# Altium footprint library VARISTOR.PcbLib: 2 footprints
Each footprint in its own frame and in the unit in brackets; x right, y up, seen from the top. Pads: shape width x height; smd on the part's side, far side on the other; paste and mask are expansions set on the pad; w line width, h text height; cw(c..) or ccw(c..) is an arc to the next point about the centre after c.
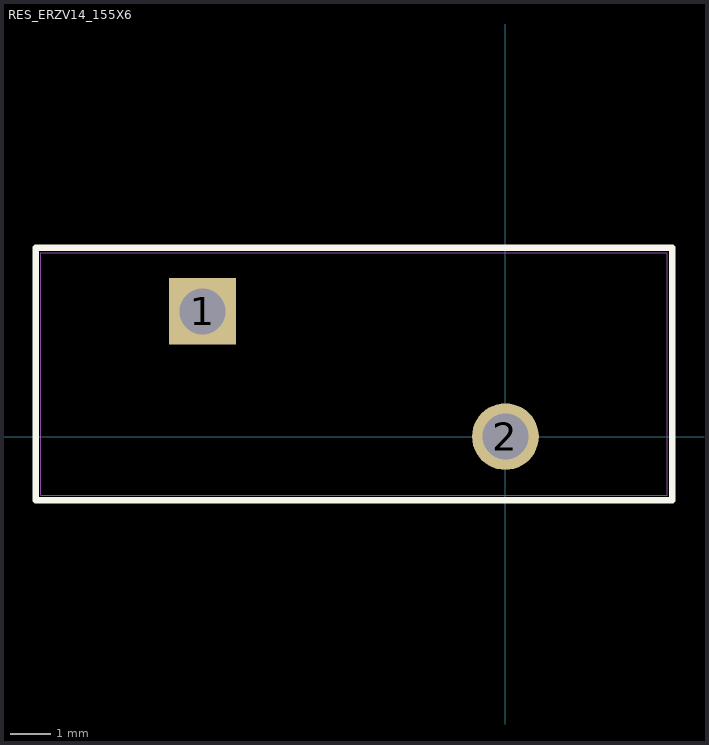
[diagram p0: the footprints below, top view; thin cyan lines are the x and y axes]

## PCBComponent_1 [mil]

## RES_ERZV14_155X6 [mil]
pads (2):
  rect 65x65 hole 45 mask-1000: 1(-295,122)
  round 65 hole 45 mask-1000: 2(0,0)
Top Overlay:
  lines w6: -457.5,-62 -457.5,184 162.5,184 162.5,-62 -457.5,-62
Top Paste:
  region: 0,32.78 -8.48,31.66 -16.39,28.39 -23.18,23.18 -28.39,16.39 -31.66,8.48 -32.78,0 -31.66,-8.48 -28.39,-16.39 -23.18,-23.18 -16.39,-28.39 -8.48,-31.66 0,-32.78 8.48,-31.66 16.39,-28.39 23.18,-23.18 28.39,-16.39 31.66,-8.48 32.78,0 31.66,8.48 28.39,16.39 23.18,23.18 16.39,28.39 8.48,31.66
  region: -327.5,89.5 -262.5,89.5 -262.5,154.5 -327.5,154.5
Top Solder:
  region: 0,32.78 -8.48,31.66 -16.39,28.39 -23.18,23.18 -28.39,16.39 -31.66,8.48 -32.78,0 -31.66,-8.48 -28.39,-16.39 -23.18,-23.18 -16.39,-28.39 -8.48,-31.66 0,-32.78 8.48,-31.66 16.39,-28.39 23.18,-23.18 28.39,-16.39 31.66,-8.48 32.78,0 31.66,8.48 28.39,16.39 23.18,23.18 16.39,28.39 8.48,31.66
  region: -327.5,89.5 -262.5,89.5 -262.5,154.5 -327.5,154.5
Bottom Solder:
  region: 0,32.78 -8.48,31.66 -16.39,28.39 -23.18,23.18 -28.39,16.39 -31.66,8.48 -32.78,0 -31.66,-8.48 -28.39,-16.39 -23.18,-23.18 -16.39,-28.39 -8.48,-31.66 0,-32.78 8.48,-31.66 16.39,-28.39 23.18,-23.18 28.39,-16.39 31.66,-8.48 32.78,0 31.66,8.48 28.39,16.39 23.18,23.18 16.39,28.39 8.48,31.66
  region: -327.5,89.5 -262.5,89.5 -262.5,154.5 -327.5,154.5
Mechanical 1:
  lines w1: -452.5,-57 -452.5,179 157.5,179 157.5,-57 -452.5,-57